# EAGLE library part RT8293B (library custom)
Synchronous Buck Converter Voltage Regulator Adjustable 4.5-23V In 0.8-15V Out 3A 1.2MHz
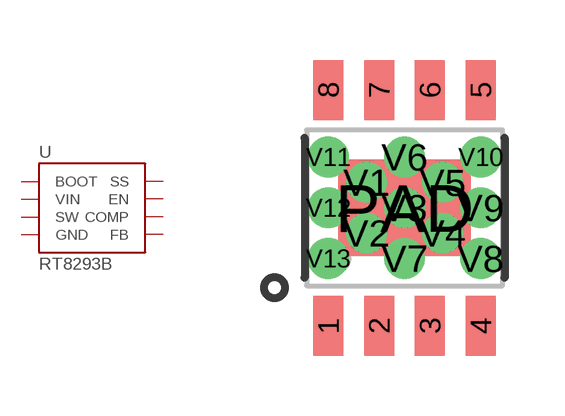
[diagram p101: symbol with the pads of 8-SOIC-PWR; footprint 8-SOIC-PWR]

Designator prefix U

## RT8293B  [8-SOIC-PWR]
1  BOOT
2  VIN
3  SW
4  GND
5  FB
6  COMP
7  EN
8  SS
PAD  GND
V1  GND
V2  GND
V3  GND
V4  GND
V5  GND
V6  GND
V7  GND
V8  GND
V9  GND
V10  GND
V11  GND
V12  GND
V13  GND

## Footprint 8-SOIC-PWR (pad centres in mm)
smd 0.75 x 1.5: 1 -1.905,-2.95; 2 -0.635,-2.95; 3 0.635,-2.95; 4 1.905,-2.95; 5 1.905,2.95; 6 0.635,2.95; 7 -0.635,2.95; 8 -1.905,2.95
smd 3.302 x 2.413: PAD 0,0
drill 0.508: V1 -0.953,0.635; V2 -0.953,-0.635; V3 0,0; V4 0.953,-0.635; V5 0.953,0.635; V6 0,1.27; V7 0,-1.27; V8 1.905,-1.27; V9 1.905,0; V10 1.905,1.27; V11 -1.905,1.27; V12 -1.905,0; V13 -1.905,-1.27